# EAGLE library part NC7WZ{07,16,17}PX (library kmod-ics)
Dual buffer Comes in a number of varieties, such as Schmitt-trigger or not, or open-drain or not. make sure to check! Untested! Thinking of using for test backplane.
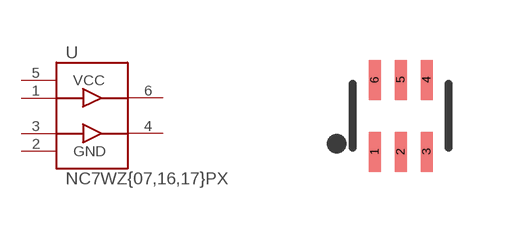
[diagram p14: symbol with the pads of SOT363; footprint SOT363]

Designator prefix -

## NC7WZ{07,16,17}PX  [SOT363]
1  1A
2  GND
3  2A
4  2Y
5  VCC
6  1Y

## Footprint SOT363 (pad centres in mm)
SOT363 Copied from somewhere; seemed to work well, but made pads longer anyway.
smd 0.3 x 1: 1 -0.65,-0.9; 2 0,-0.9; 3 0.65,-0.9; 4 0.65,0.9; 5 0,0.9; 6 -0.65,0.9